# Altium schematic symbol library SCH - POWER - SWITCHMODE - TI TPS61222DCK.SchLib: 1 symbol
Pins are listed as number, name and electrical type; pins without a type are passive.

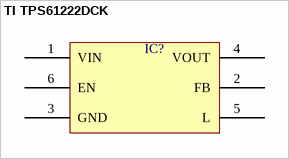
[diagram p0: symbol TI TPS61222DCK]

## TI TPS61222DCK
designator IC?  (value not drawn)
pins: 1 VIN, 2 FB, 3 GND, 4 VOUT, 5 L, 6 EN